# Altium footprint library PCB - POTENTIOMETER - POT BOURNS TRIMPOT 3224W.PCBLIB: 1 footprints
Each footprint in its own frame and in the unit in brackets; x right, y up, seen from the top. Pads: shape width x height; smd on the part's side, far side on the other; paste and mask are expansions set on the pad; w line width, h text height; cw(c..) or ccw(c..) is an arc to the next point about the centre after c.
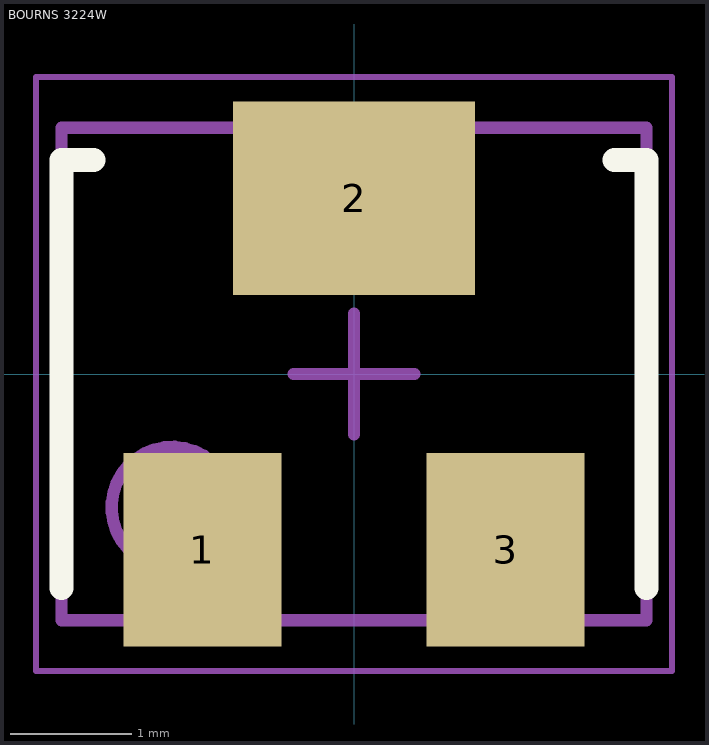
[diagram p0: the footprint, top view; thin cyan lines are the x and y axes]

## BOURNS 3224W [mm] "Bourns Trimpot 3224W - 4mm Sealed SMD Trimpot"
height 5.3
pads (3):
  rect 1.3x1.6 smd: 1(-1.25,-1.45) 3(1.25,-1.45)
  rect 2x1.6 smd: 2(0,1.45)
Top Overlay:
  lines w0.2: -2.413,-1.766 -2.413,1.766 ; -2.4,1.766 -2.15,1.766 ; 2.15,1.766 2.413,1.766 2.413,-1.766
Body Outline:
  circle w0.1: c-1.5,-1.1 r0.5
  lines w0.1: -2.413,-2.032 -2.413,2.032 2.413,2.032 2.413,-2.032 -2.413,-2.032
Courtyard:
  lines w0.05: -2.625,-2.45 -2.625,2.45 2.625,2.45 2.625,-2.45 -2.625,-2.45
  lines w0.1: -0.5,0 0.5,0 ; 0,-0.5 0,0.5
3D body "Bourns_3224W.STEP": height 5.29, standoff 0.01, extent -2.393,-1.978 2.433,1.978